# Altium footprint library Footprints.PcbLib: 19 footprints (part 1 of 2)
Each footprint in its own frame and in the unit in brackets; x right, y up, seen from the top. Pads: shape width x height; smd on the part's side, far side on the other; paste and mask are expansions set on the pad; w line width, h text height; cw(c..) or ccw(c..) is an arc to the next point about the centre after c.
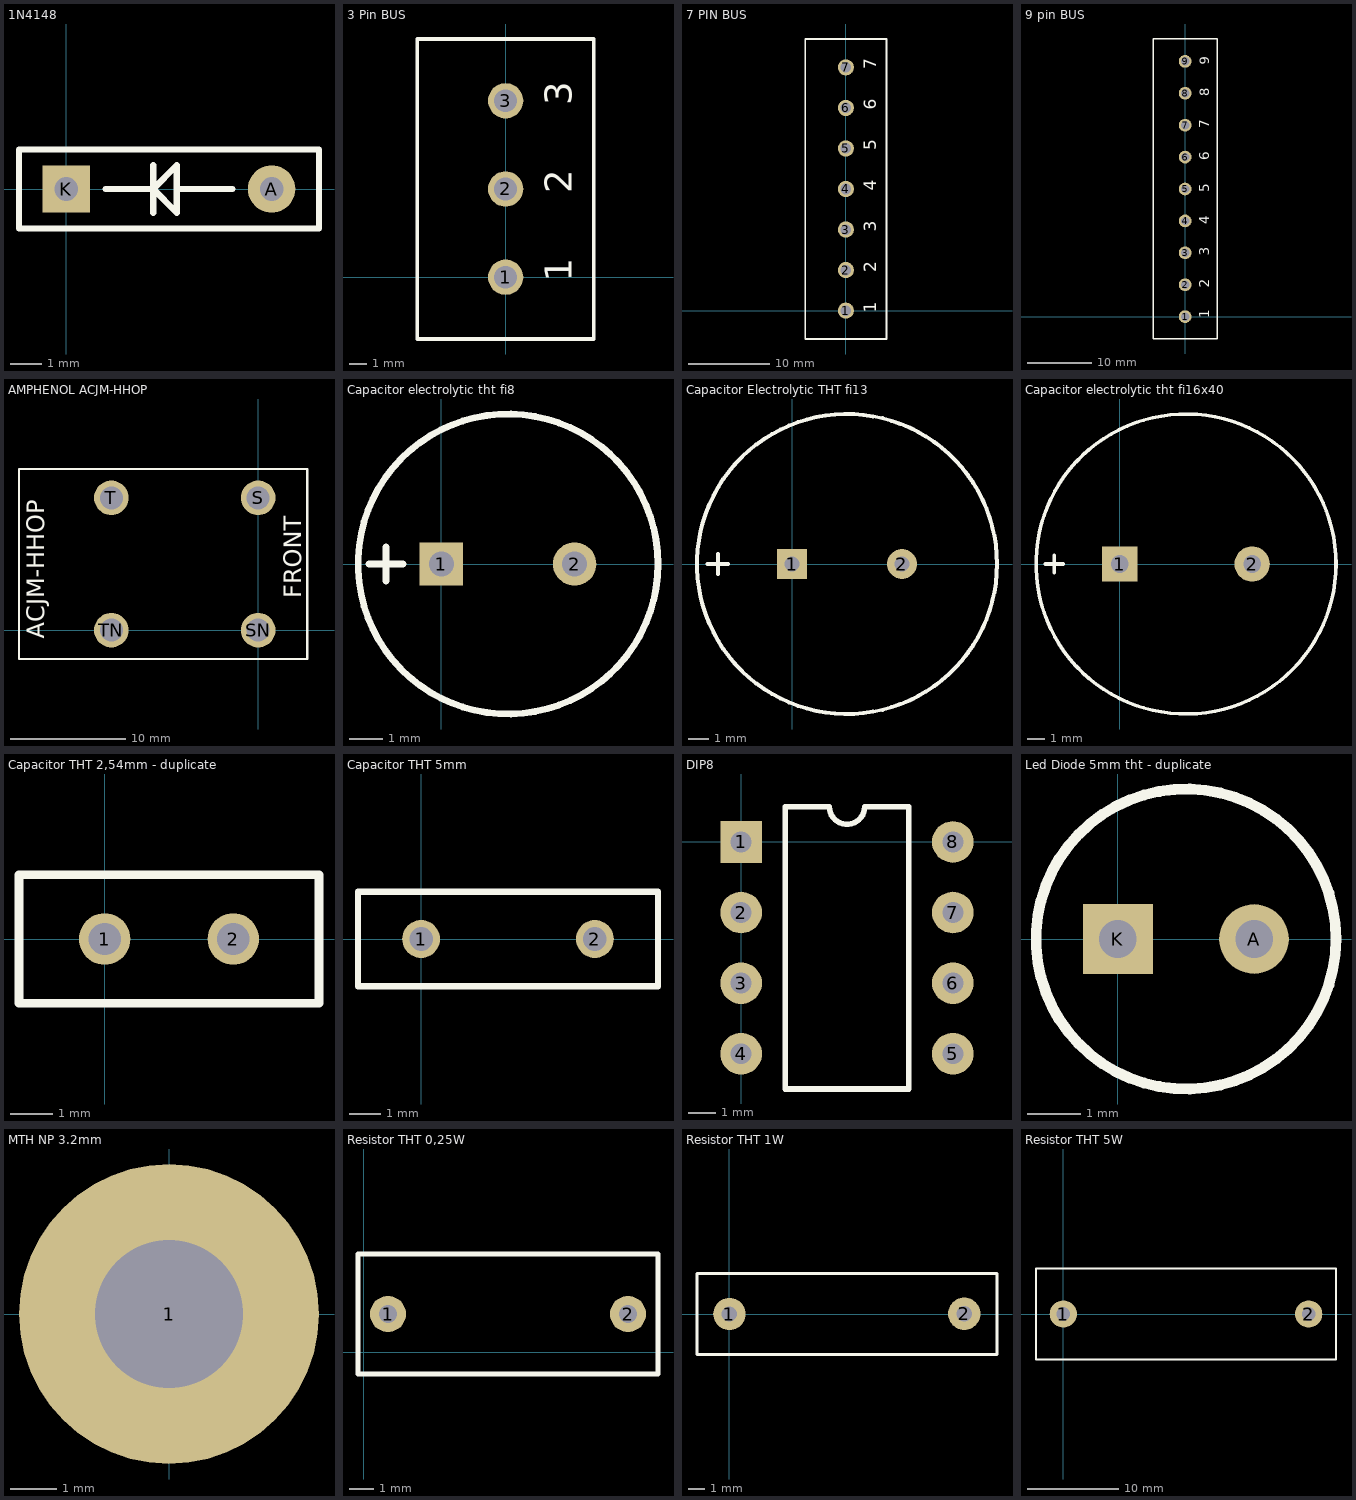
[diagram p0: the footprints below, top view; thin cyan lines are the x and y axes]

## 1N4148 [mm]
pads (2):
  round 1.5 hole 0.75: A(6.5,0)
  rect 1.5x1.5 hole 0.75 mask+0.102: K(0,0)
Top Overlay:
  lines w0.2: 1.25,0 2.5,0 2.75,0 ; 5.25,0 4.25,0 ; 2.75,0 3.5,-0.75 ; 2.75,0 2.75,0.75 ; 2.75,0 3.5,0.75 ; 2.75,0 2.75,0 ; 2.75,0.75 2.75,-0.75 2.75,0.75 ; 3.5,-0.75 3.5,-0.75 ; 3.5,-0.75 3.5,0.75 ; 3.5,0 4.25,0 ; 3.5,0 4.25,0 ; 3.5,0 3.5,0.75 ; 4.25,0 4.25,0 ; -1.5,-1.25 -1.5,1.25 8,1.25 8,-1.25 -1.5,-1.25

## 3 Pin BUS [mm] "5mm"
pads (3):
  round 2 hole 1.3: 1(0,0) 2(0,5) 3(0,10)
Top Overlay:
  lines w0.2: -5,-3.5 -5,13.5 5,13.5 5,-3 5,-3.5 -5,-3.5
  text "1" at 3.746,-0.246 h1.52
  text "2" at 3.746,4.754 h1.52
  text "3" at 3.746,9.754 h1.52

## 7 PIN BUS [mm]
pads (7):
  round 2 hole 1.3: 1(0,0) 2(0,5) 3(0,10) 4(0,15) 5(0,20) 6(0,25) 7(0,30)
Top Overlay:
  lines w0.2: -5,-3.5 5,-3.5 5,-3 5,33.5 -5,33.5 -5,-3.5
  text "7" at 3.746,29.754 h1.52
  text "6" at 3.746,24.754 h1.52
  text "5" at 3.746,19.754 h1.52
  text "4" at 3.746,14.754 h1.52
  text "3" at 3.746,9.754 h1.52
  text "2" at 3.746,4.754 h1.52
  text "1" at 3.746,-0.246 h1.52

## 9 pin BUS [mm] "5mm"
pads (9):
  round 2 hole 1.3: 1(0,0) 2(0,5) 3(0,10) 4(0,15) 5(0,20) 6(0,25) 7(0,30) 8(0,35) 9(0,40)
Top Overlay:
  lines w0.2: -5,-3.5 5,-3.5 5,-3 5,43.5 -5,43.5 -5,-3.5
  text "7" at 3.746,29.504 h1.52
  text "6" at 3.746,24.504 h1.52
  text "5" at 3.746,19.504 h1.52
  text "4" at 3.746,14.504 h1.52
  text "3" at 3.746,9.504 h1.52
  text "2" at 3.746,4.504 h1.52
  text "1" at 3.746,-0.246 h1.52
  text "8" at 3.746,34.504 h1.5
  text "9" at 3.746,39.504 h1.5

## AMPHENOL ACJM-HHOP [mm] "AMPHENOL ACJM-HHOP"
pads (4):
  round 3 hole 2: S(0,11.45) SN(0,0) T(-12.7,11.45) TN(-12.7,0)
Top Overlay:
  lines w0.2: -20.7,-2.5 4.25,-2.5 4.25,13.95 -20.7,13.95 -20.7,-2.5
  text "FRONT" at 3.746,2.754 h1.52
  text "ACJM-HHOP" at -18.504,-0.746 h1.52

## Capacitor electrolytic tht fi8 [mm]
pads (2):
  rect 1.3x1.3 hole 0.75: 1(0,0)
  round 1.3 hole 0.75: 2(4,0)
Top Overlay:
  circle w0.2: c2,0 r4.5
  lines w0.2: -2.168,0 -1.152,0 ; -1.66,-0.508 -1.66,0.508
3D body "CAP FI8.stp": height 13.03, standoff -2.48, extent -2.025,-4.025 6.025,4.025

## Capacitor Electrolytic THT fi13 [mm]
pads (2):
  rect 1.5x1.5 hole 0.75: 1(0,0)
  round 1.5 hole 0.75: 2(5.5,0)
Top Overlay:
  circle w0.2: c2.75,0 r7.5
  lines w0.2: -4.218,0 -3.202,0 ; -3.71,-0.508 -3.71,0.508

## Capacitor electrolytic tht fi16x40 [mm]
pads (2):
  rect 2x2 hole 1: 1(0,0)
  round 2 hole 1: 2(7.5,0)
Top Overlay:
  circle w0.2: c3.75,0 r8.5
  lines w0.2: -4.218,0 -3.202,0 ; -3.71,-0.508 -3.71,0.508
3D body "CAP fi16.STEP": height 41.01, standoff -2, extent -4,-8 12.01,8

## Capacitor THT 2,54mm - duplicate [mm]
pads (2):
  round 1.2 hole 0.75: 1(0,0) 2(3,0)
Top Overlay:
  lines w0.2: -2,-1.5 5,-1.5 5,1.5 -2,1.5 -2,-1.5
3D body "Capacitor THT 2.54 generic.stp": height 4.57, standoff -3, extent -0.698,-1.028 3.698,1.028

## Capacitor THT 5mm [mm]
pads (2):
  round 1.2 hole 0.75: 1(0,0) 2(5.5,0)
Top Overlay:
  lines w0.2: -2,-1.5 -2,1.5 5,1.5 7.5,1.5 7.5,-1.5 5,-1.5 -2,-1.5
3D body "CAP 5mm.stp": height 7.81, standoff -5.79, extent -0.018,-1.575 5.568,1.605

## DIP8 [mm]
pads (8):
  rect 1.5x1.5 hole 0.75: 1(0,0)
  round 1.5 hole 0.75: 2(0,-2.54) 3(0,-5.08) 4(0,-7.62) 5(7.62,-7.62) 6(7.62,-5.08) 7(7.62,-2.54) 8(7.62,0)
Top Overlay:
  lines w0.2: 1.585,-8.89 6.035,-8.89 6.035,1.27 4.445,1.27 cw(c3.81,1.27) 3.175,1.27 1.585,1.27 1.585,-8.89

## Led Diode 5mm tht - duplicate [mm]
pads (2):
  round 1.3 hole 0.7: A(2.54,0)
  rect 1.3x1.3 hole 0.7: K(0,0)
Top Overlay:
  circle w0.2: c1.27,0 r2.8

## MTH NP 3.2mm [mm] "Mounting hole non plated 3.2mm"
pads (1):
  round 6.5 hole 3.2: 1(0,0)

## Resistor THT 0,25W [mm]
pads (2):
  round 1.5 hole 0.75: 1(1,1.6) 2(11,1.6)
Top Overlay:
  lines w0.2: -0.25,-0.9 12.25,-0.9 12.25,4.1 -0.25,4.1 -0.25,-0.9
3D body "User Library-MF0_25W_6mm_10mm_22ohm.step": height 1, standoff -3.1, extent 0.775,0.6 11.225,2.6

## Resistor THT 1W [mm]
pads (2):
  round 2 hole 0.95: 1(0,0) 2(14.481,0.015)
Top Overlay:
  lines w0.2: -2,-2.5 -2,2.5 16.5,2.5 16.5,-2.5 -2,-2.5

## Resistor THT 5W [mm]
pads (2):
  round 3 hole 1.5: 1(0,0) 2(27,0)
Top Overlay:
  lines w0.2: -3,-5 30,-5 30,5 -3,5 -3,-5